# EAGLE library part BQ51013A (library bq500211_bq500210_bq51013a)
Integrated Wireless Power Supply Receiver, Qi Compliant
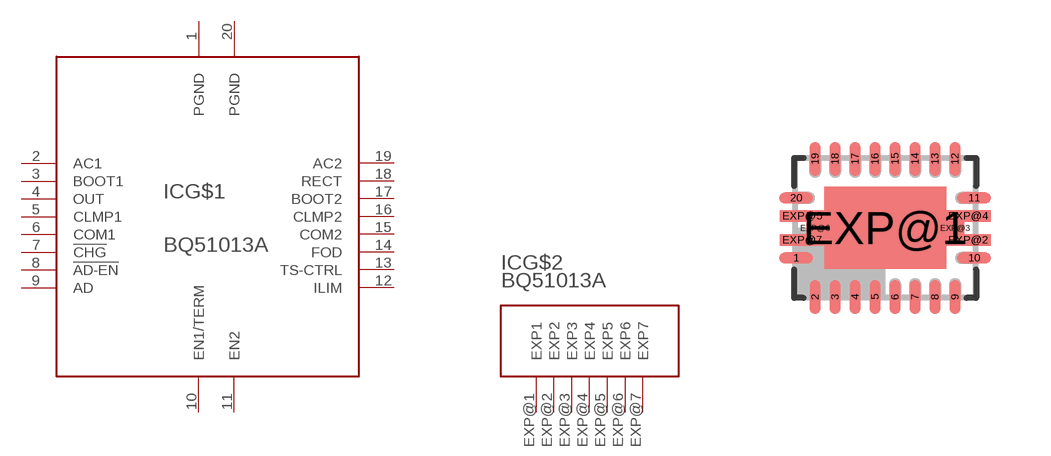
[diagram p2: symbol with the pads of RHL_R-VQFN-N20; footprint RHL_R-VQFN-N20]

Designator prefix IC; gates G$1=BQ51013A G$2=BQ51013A_EXP

## BQ51013A  [RHL_R-VQFN-N20]
1  G$1:PGND
2  G$1:AC1
3  G$1:BOOT1
4  G$1:OUT
5  G$1:CLMP1
6  G$1:COM1
7  G$1:!CHG
8  G$1:!AD-EN
9  G$1:AD
10  G$1:EN1/TERM
11  G$1:EN2
12  G$1:ILIM
13  G$1:TS-CTRL
14  G$1:FOD
15  G$1:COM2
16  G$1:CLMP2
17  G$1:BOOT2
18  G$1:RECT
19  G$1:AC2
20  G$1:PGND
EXP@1  G$2:EXP1
EXP@2  G$2:EXP2
EXP@3  G$2:EXP3
EXP@4  G$2:EXP4
EXP@5  G$2:EXP5
EXP@6  G$2:EXP6
EXP@7  G$2:EXP7

## Footprint RHL_R-VQFN-N20 (pad centres in mm)
RHL (R-PVQFN-N20) Set in DRC - Same Signals - SMD to SMD and SMD to PAD = 0.
smd 0.85 x 0.28: 1 -2.225,-0.75; 10 2.225,-0.75; 11 2.225,0.75; 20 -2.225,0.75
smd 0.28 x 0.85: 2 -1.75,-1.725; 3 -1.25,-1.725; 4 -0.75,-1.725; 5 -0.25,-1.725; 6 0.25,-1.725; 7 0.75,-1.725; 8 1.25,-1.725; 9 1.75,-1.725; 12 1.75,1.725; 13 1.25,1.725; 14 0.75,1.725; 15 0.25,1.725; 16 -0.25,1.725; 17 -0.75,1.725; 18 -1.25,1.725; 19 -1.75,1.725
smd 3.05 x 2.05: EXP@1 0,0
smd 1.125 x 0.28: EXP@2 2.075,-0.3; EXP@4 2.075,0.3; EXP@5 -2.075,0.3; EXP@7 -2.075,-0.3
smd 0.45 x 0.4: EXP@3 1.75,0; EXP@6 -1.75,0